# Altium footprint library PCB_General.PcbLib: 49 footprints (part 4 of 4)
Each footprint in its own frame and in the unit in brackets; x right, y up, seen from the top. Pads: shape width x height; smd on the part's side, far side on the other; paste and mask are expansions set on the pad; w line width, h text height; cw(c..) or ccw(c..) is an arc to the next point about the centre after c.
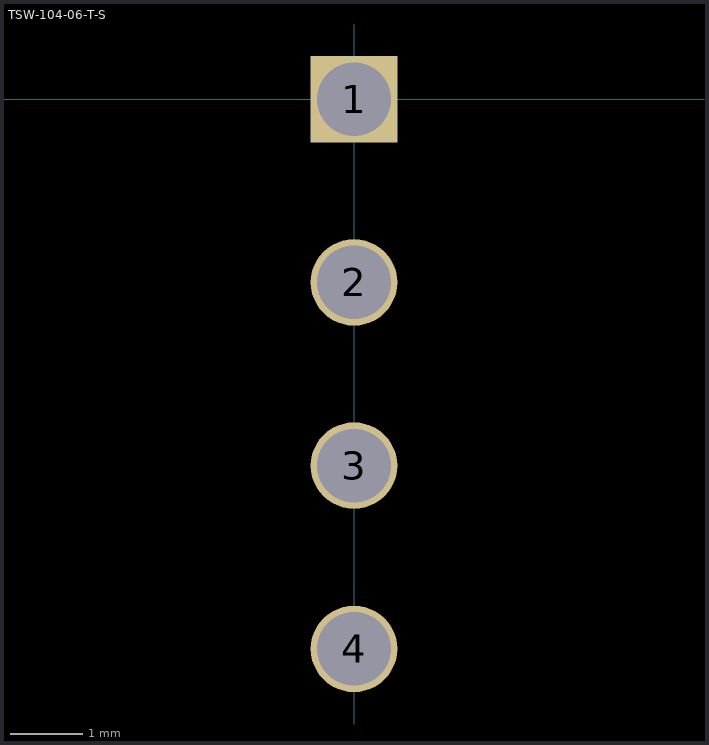
[diagram p3: the footprint, top view; thin cyan lines are the x and y axes]

## TSW-104-06-T-S [mm]
pads (4):
  rect 1.2x1.2 hole 1.02: 1(0,0)
  round 1.2 hole 1.02: 2(0,-2.54) 3(0,-5.08) 4(0,-7.62)
3D body "TSW-104-06-T-S.stp": height 5.22, standoff -2.4, extent -1.25,-8.957 1.29,1.33